# Altium schematic symbol library EL-sense_Supercapacitors.SchLib: 1 symbol
Pins are listed as number, name and electrical type; pins without a type are passive.

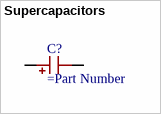
[diagram p0: symbol Supercapacitors]

## Supercapacitors
designator C?
pins: 1, 2